# EAGLE library part APDS-9500 (library pimoroni-optoelectronics)
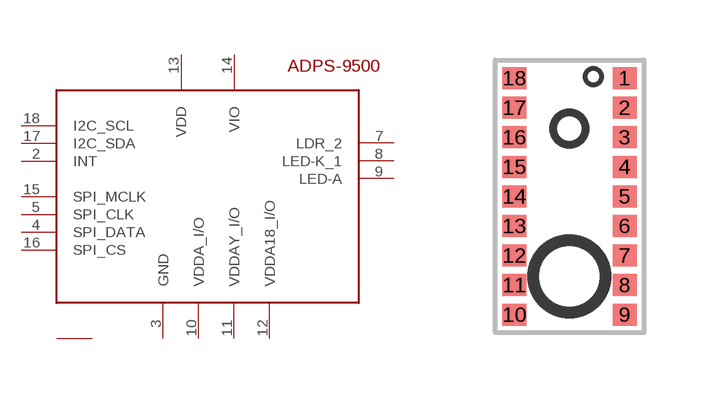
[diagram p10: symbol with the pads of ADPS-9500; footprint ADPS-9500]

Designator prefix -

## APDS-9500  [ADPS-9500]
1  NC  nc
2  INT
3  GND
4  SPI_DATA
5  SPI_CLK
6  NC  nc
7  LDR_2
8  LED-K_1
9  LED-A
10  VDDA_I/O
11  VDDAY_I/O
12  VDDA18_I/O
13  VDD
14  VIO
15  SPI_MCLK
16  SPI_CS
17  I2C_SDA
18  I2C_SCL

## Footprint ADPS-9500 (pad centres in mm)
smd 0.6 x 0.55: 1 1.378,2.96; 2 1.378,2.22; 3 1.378,1.48; 4 1.378,0.74; 5 1.378,0; 6 1.378,-0.74; 7 1.378,-1.48; 8 1.378,-2.22; 9 1.378,-2.96; 10 -1.378,-2.96; 11 -1.378,-2.22; 12 -1.378,-1.48; 13 -1.378,-0.74; 14 -1.378,0; 15 -1.378,0.74; 16 -1.378,1.48; 17 -1.378,2.22; 18 -1.378,2.96